# Altium schematic symbol library tvs_diode.SchLib: 1 symbol
Pins are listed as number, name and electrical type; pins without a type are passive.

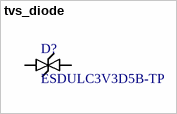
[diagram p0: symbol tvs_diode]

## tvs_diode
designator D?, comment ESDULC3V3D5B-TP
ESD Protection Diodes / TVS Diodes ESD,3.3V,SOD-523
footprint SODFL160X65-2N (SODFL, 2-Leads, Body 0,80x1,60mm, IPC Medium Density)
pins: 1, 2